# EAGLE library part LTC6242 (library Linear Technology)
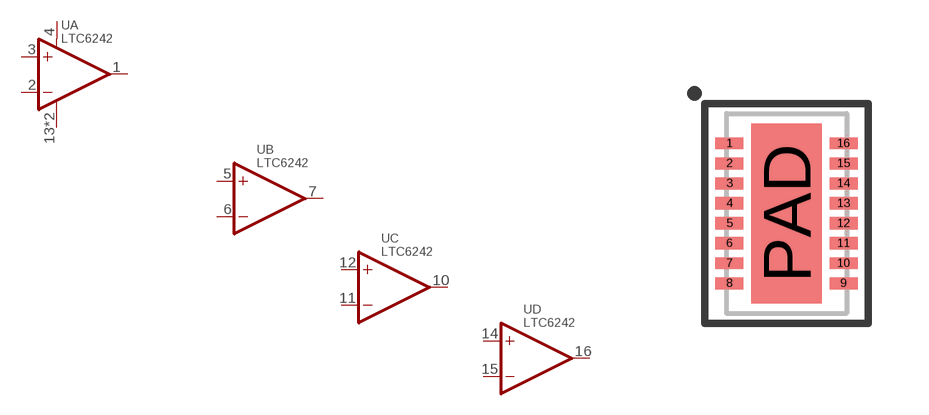
[diagram p3: symbol with the pads of WFDFN-16; footprint WFDFN-16]

Designator prefix U; gates A=OP-AMP+ B=_OP-AMP+ C=_OP-AMP+ D=_OP-AMP+

## LTC6242HVCDHC#PBF  [WFDFN-16]
1  A:OUT  out
2  A:-IN  in
3  A:+IN  in
4  A:V+  pwr
5  B:+IN  in
6  B:-IN  in
7  B:OUT  out
10  C:OUT  out
11  C:-IN  in
12  C:+IN  in
13  A:V-  pwr
14  D:+IN  in
15  D:-IN  in
16  D:OUT  out
PAD  A:V-  pwr

## Footprint WFDFN-16 (pad centres in mm)
smd 0.7 x 0.3: 1 -1.425,1.75; 2 -1.425,1.25; 3 -1.425,0.75; 4 -1.425,0.25; 5 -1.425,-0.25; 6 -1.425,-0.75; 7 -1.425,-1.25; 8 -1.425,-1.75; 9 1.425,-1.75; 10 1.425,-1.25; 11 1.425,-0.75; 12 1.425,-0.25; 13 1.425,0.25; 14 1.425,0.75; 15 1.425,1.25; 16 1.425,1.75
smd 1.75 x 4.5: PAD 0,0